# EAGLE library part 400AWMDP1R1M2 (library RoboJackets-Switches)
Rocker Switch DPDT 3A (AC/DC) 120V Through Hole
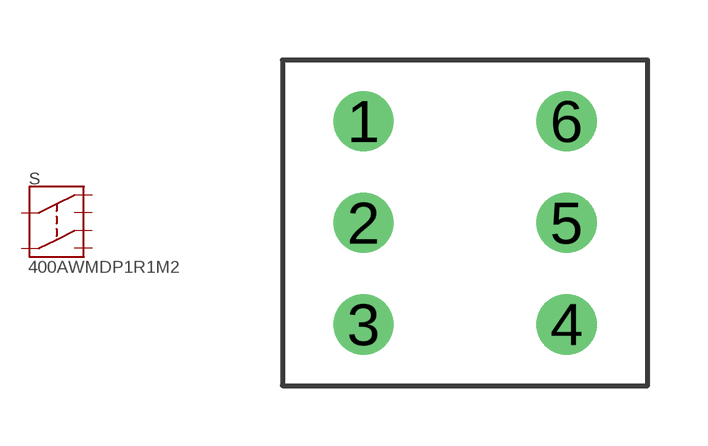
[diagram p0: symbol with the pads of 400AWMDP1R1M2; footprint 400AWMDP1R1M2]

Designator prefix S

## 400AWMDP1R1M2 (DKPN: 400AWMDP1R1M2QE-ND)  [400AWMDP1R1M2]
1  NC1  pas
2  C1  pas
3  NO1  pas
4  NO2  pas
5  C2  pas
6  NC2  pas

## Footprint 400AWMDP1R1M2 (pad centres in mm)
drill 1: 1 -2.54,2.54; 2 -2.54,0; 3 -2.54,-2.54; 4 2.54,-2.54; 5 2.54,0; 6 2.54,2.54